# EAGLE library part MT48H16M32 (library JLB6_Processor)
Mobile SDRAM 32 bits MT48H16M32LF Micron
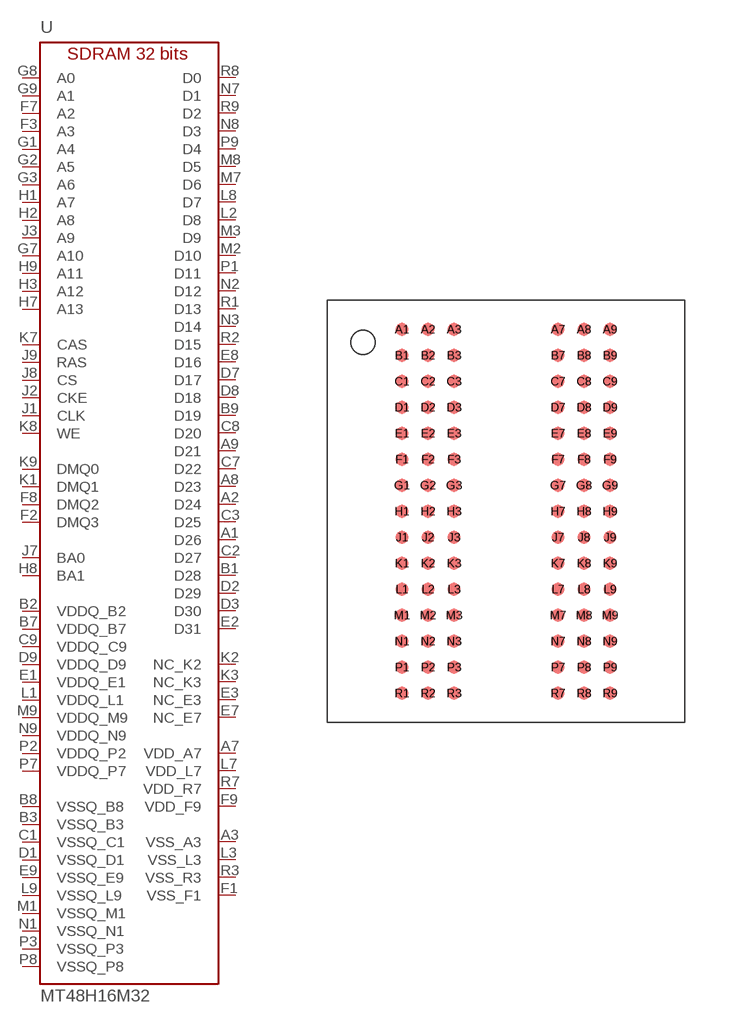
[diagram p18: symbol with the pads of BGA90; footprint BGA90]

Designator prefix U

## MT48H16M32  [BGA90]
A1  D26
A2  D24
A3  VSS_A3
A7  VDD_A7
A8  D23
A9  D21
B1  D28
B2  VDDQ_B2
B3  VSSQ_B3
B7  VDDQ_B7
B8  VSSQ_B8
B9  D19
C1  VSSQ_C1
C2  D27
C3  D25
C7  D22
C8  D20
C9  VDDQ_C9
D1  VSSQ_D1
D2  D29
D3  D30
D7  D17
D8  D18
D9  VDDQ_D9
E1  VDDQ_E1
E2  D31
E3  NC_E3
E7  NC_E7
E8  D16
E9  VSSQ_E9
F1  VSS_F1
F2  DMQ3
F3  A3
F7  A2
F8  DMQ2
F9  VDD_F9
G1  A4
G2  A5
G3  A6
G7  A10
G8  A0
G9  A1
H1  A7
H2  A8
H3  A12
H7  A13
H8  BA1
H9  A11
J1  CLK
J2  CKE
J3  A9
J7  BA0
J8  CS
J9  RAS
K1  DMQ1
K2  NC_K2
K3  NC_K3
K7  CAS
K8  WE
K9  DMQ0
L1  VDDQ_L1
L2  D8
L3  VSS_L3
L7  VDD_L7
L8  D7
L9  VSSQ_L9
M1  VSSQ_M1
M2  D10
M3  D9
M7  D6
M8  D5
M9  VDDQ_M9
N1  VSSQ_N1
N2  D12
N3  D14
N7  D1
N8  D3
N9  VDDQ_N9
P1  D11
P2  VDDQ_P2
P3  VSSQ_P3
P7  VDDQ_P7
P8  VSSQ_P8
P9  D4
R1  D13
R2  D15
R3  VSS_R3
R7  VDD_R7
R8  D0
R9  D2

## Footprint BGA90 (pad centres in mm)
smd 0.4 x 0.4: A1 -3.2,5.6; A2 -2.4,5.6; A3 -1.6,5.6; A7 1.6,5.6; A8 2.4,5.6; A9 3.2,5.6; B1 -3.2,4.8; B2 -2.4,4.8; B3 -1.6,4.8; B7 1.6,4.8; B8 2.4,4.8; B9 3.2,4.8; C1 -3.2,4; C2 -2.4,4; C3 -1.6,4; C7 1.6,4; C8 2.4,4; C9 3.2,4; D1 -3.2,3.2; D2 -2.4,3.2; D3 -1.6,3.2; D7 1.6,3.2; D8 2.4,3.2; D9 3.2,3.2; E1 -3.2,2.4; E2 -2.4,2.4; E3 -1.6,2.4; E7 1.6,2.4; E8 2.4,2.4; E9 3.2,2.4; F1 -3.2,1.6; F2 -2.4,1.6; F3 -1.6,1.6; F7 1.6,1.6; F8 2.4,1.6; F9 3.2,1.6; G1 -3.2,0.8; G2 -2.4,0.8; G3 -1.6,0.8; G7 1.6,0.8; G8 2.4,0.8; G9 3.2,0.8; H1 -3.2,0; H2 -2.4,0; H3 -1.6,0; H7 1.6,0; H8 2.4,0; H9 3.2,0; J1 -3.2,-0.8; J2 -2.4,-0.8; J3 -1.6,-0.8; J7 1.6,-0.8; J8 2.4,-0.8; J9 3.2,-0.8; K1 -3.2,-1.6; K2 -2.4,-1.6; K3 -1.6,-1.6; K7 1.6,-1.6; K8 2.4,-1.6; K9 3.2,-1.6; L1 -3.2,-2.4; L2 -2.4,-2.4; L3 -1.6,-2.4; L7 1.6,-2.4; L8 2.4,-2.4; L9 3.2,-2.4; M1 -3.2,-3.2; M2 -2.4,-3.2; M3 -1.6,-3.2; M7 1.6,-3.2; M8 2.4,-3.2; M9 3.2,-3.2; N1 -3.2,-4; N2 -2.4,-4; N3 -1.6,-4; N7 1.6,-4; N8 2.4,-4; N9 3.2,-4; P1 -3.2,-4.8; P2 -2.4,-4.8; P3 -1.6,-4.8; P7 1.6,-4.8; P8 2.4,-4.8; P9 3.2,-4.8; R1 -3.2,-5.6; R2 -2.4,-5.6; R3 -1.6,-5.6; R7 1.6,-5.6; R8 2.4,-5.6; R9 3.2,-5.6